# Altium schematic symbol library PIF_74HC595_DIP.SchLib: 1 symbol
Pins are listed as number, name and electrical type; pins without a type are passive.

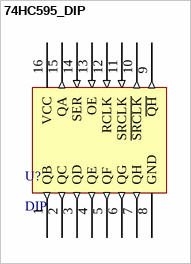
[diagram p0: symbol 74HC595_DIP]

## 74HC595_DIP
designator U?, comment DIP
74HC595_DIP
footprint PCBComponent_1
pins: 1 QB (out), 2 QC (out), 3 QD (out), 4 QE (out), 5 QF (out), 6 QG (out), 7 QH (out), 8 GND (power), 9 ~{QH} (out), 10 ~{SRCLK} (out), 11 SRCLK (in), 12 RCLK (in), 13 OE (in), 14 SER (in), 15 QA (out), 16 VCC (power)